# Altium schematic symbol library Antenna.SCHLIB: 130 symbols (part 3 of 4)
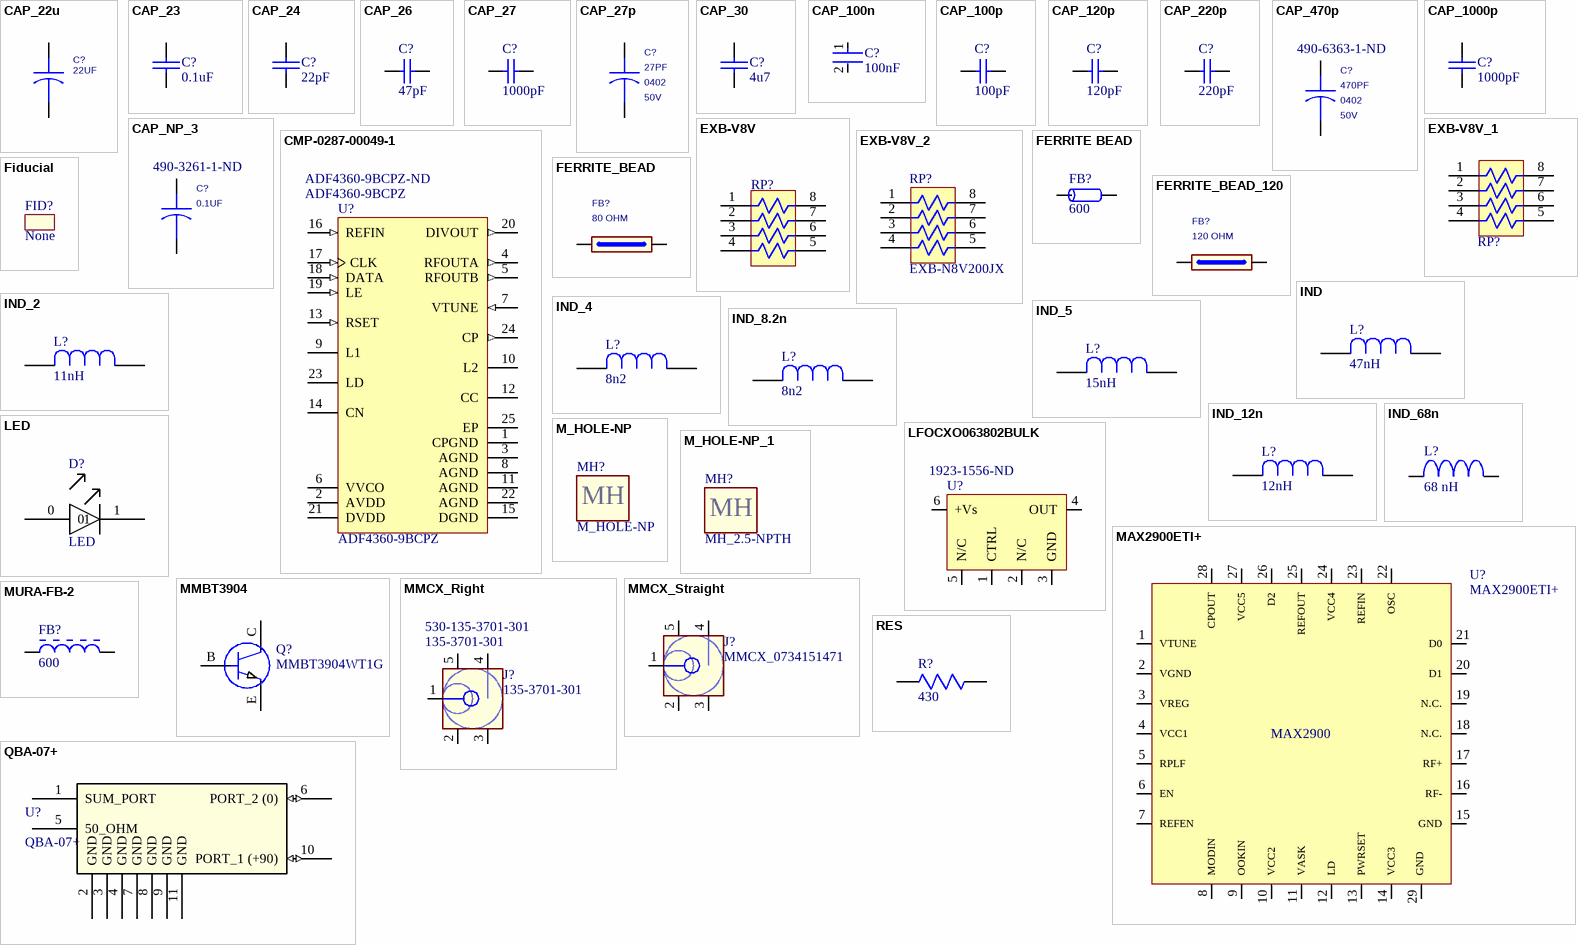
[diagram p5: symbols CAP_22u to RES]

## IND_8.2n
designator L?, comment 8n2
FIXED IND 8.2NH 380MA 280 MOHM; Manufacturer: Taiyo; Manufacturer Part Number: HK10058N2J-T; Current Rating: 300mA; Shielding: Unshielded; Self Resonant Frequency: 4.9GHz; Q Factor: 8; Resistance: 280mR; Supplier 1: Digi-Key; Supplier Part Number 1: 587-1517-1-ND; RoHS: No; Category: Fixed Inductors; Stock 1: 35680; Pricing 1: 1=0.10000, 10=0.02900, 100=0.01960, 500=0.01582, 1000=0.01351, 2500=0.01208 (USD); Case/Package: 0402; Number of Pins: 2; Packaging: Cut Tape; Inductance: 8.2nH; Length: 1mm; Height: 500um; Width: 500um; Halogen Free: Halogen Free; Lead Free: Exempt; ComponentLink1URL: http://ds.yuden.co.jp/TYCOMPAS/ut/detail.do?productNo=HK10058N2J-T&fileName=HK10058N2J-T_SS&mode=specSheetDownload&src-supplier=Digi-Key; ComponentLink1Description: http://ds.yuden.co.jp/TYCOMPAS/ut/detail.do?productNo=HK10058N2J-T&fileName=HK10058N2J-T_SS&mode=specSheetDownload&src-supplier=Digi-Key
footprint M9898-ND
footprint L0402
pins: 1, 2
2 alternate drawings of the same symbol

## IND_12n
designator L?, comment 12nH
FIXED IND 12NH 500MA 140 MOHM; Manufacturer Part Number: LQW15AN12NJ00D; ComponentLink1URL: http://search.murata.co.jp/Ceramy/image/img/P02/JELF243A-9138.pdf?src-supplier=Digi-Key; ComponentLink1Description: http://search.murata.co.jp/Ceramy/image/img/P02/JELF243A-9138.pdf?src-supplier=Digi-Key; ComponentLink2URL: https://datasheet.ciiva.com/11801/0900766b8090d800-11801400.pdf?src-supplier=RSComponents; ComponentLink2Description: https://datasheet.ciiva.com/11801/0900766b8090d800-11801400.pdf?src-supplier=RSComponents; ComponentLink3URL: https://datasheet.ciiva.com/1042/l0075s0080lqw15a-00-1042156.pdf?src-supplier=Digi-Key; ComponentLink3Description: https://datasheet.ciiva.com/1042/l0075s0080lqw15a-00-1042156.pdf?src-supplier=Digi-Key; ComponentLink4URL: https://datasheet.ciiva.com/1042/l0075s0080lqw15a-00-1042157.pdf?src-supplier=Digi-Key; ComponentLink4Description: https://datasheet.ciiva.com/1042/l0075s0080lqw15a-00-1042157.pdf?src-supplier=Digi-Key; ComponentLink5URL: https://datasheet.ciiva.com/1042/l0075s0080lqw15a-00-1042158.pdf?src-supplier=Digi-Key; ComponentLink5Description: https://datasheet.ciiva.com/1042/l0075s0080lqw15a-00-1042158.pdf?src-supplier=Digi-Key; Supplier 1: Digi-Key; Supplier Part Number 1: 490-1147-1-ND
footprint M9898-ND
footprint L0402
pins: 1, 2
2 alternate drawings of the same symbol

## IND_68n
designator L?, comment 68 nH
Fixed Inductors 0402AF Ferrite Chip 250 nH 5 % 0.52 A; Manufacturer Part Number: LQW15AN68NJ00D; Supplier 1: Digi-Key; Supplier Part Number 1: 490-1156-1-ND
footprint 0402AF-251XJLU
footprint 0402_RES
footprint 0402_cap
pins: 1 0, 2 1

## LED
designator D?
Manufacturer Part Number: SMLE13BC8TT86; Supplier 1: Digi-Key; Supplier Part Number 1: 846-1177-1-ND
footprint LED_0403
pins: 0, 1

## LFOCXO063802BULK
designator U?  Supplier Part Number 1: 1923-1556-ND  (hidden comment: LFOCXO063802BULK)
Supplier 1: Digi-Key; Manufacturer Part Number: LFOCXO063802BULK
footprint LFOCXO063802BULK
pins: 1 CTRL, 2 N/C, 3 GND, 4 OUT, 5 N/C, 6 +Vs

## M_HOLE-NP
designator MH?  (no BOM)
MH_2.5-NPTH; PCB DECAL: *
footprint MH_2.5-NPTH (Footprint not found)
footprint MH_2.5-NPTH
2 alternate drawings of the same symbol
text: MH

## M_HOLE-NP_1
designator MH?, comment MH_2.5-NPTH  (mechanical)
NPTH_#4_0.140A; PCB DECAL: *
footprint MH_2.5-NPTH (Footprint not found)
2 alternate drawings of the same symbol
text: MH

## MAX2900ETI+
designator U?
IC TX 915MHZ 200MW 28TQFN; Manufacturer: Maxim; Frequency: 928MHz; Current - Transmitting: 40mA; Max Supply Voltage: 4.5V; Min Supply Voltage: 2.7V; Operating Supply Current: 150mA; Supplier 1: Digi-Key; Supplier Part Number 1: MAX2900ETI+-ND; Manufacturer Part Number: MAX2900ETI+; RoHS: Yes; Category: RF Receivers, Transceivers; Stock 1: 173; Pricing 1: 1=7.63000, 10=6.99600, 25=6.36000, 100=5.72400, 250=5.24700, 500=4.77000, 1000=4.29300 (USD); Case/Package: QFN; Weight: 0.002497oz; Min Operating Temperature: -40°C; Max Operating Temperature: 85°C; Packaging: Rail/Tube; Package Quantity: 60; ComponentLink1URL: https://datasheet.ciiva.com/26927/max2900eti-26927063.pdf?src-supplier=IIIC; ComponentLink1Description: https://datasheet.ciiva.com/26927/max2900eti-26927063.pdf?src-supplier=IIIC; ComponentLink2URL: https://datasheet.ciiva.com/2802/max2900-max2904-2802478.pdf?src-supplier=Digi-Key; ComponentLink2Description: https://datasheet.ciiva.com/2802/max2900-max2904-2802478.pdf?src-supplier=Digi-Key
footprint MAX2900_ACTUAL
pins: 1, 2, 3, 4, 5, 6, 7, 8, 9, 10, 11, 12, 13, 14, 15, 16, 17, 18, 19, 20, 21, 22, 23, 24, 25, 26, 27, 28, 29 "Back side of chip connects to ground"
text: CPOUT; VCC5; D2; REFOUT; VCC4; REFIN; OSC; D0; VTUNE; D1; VGND; N.C.; VREG; MAX2900; VCC1; RF+; RPLF; RF-; EN; GND; REFEN; MODIN; OOKIN; VCC2; VASK; LD; PWRSET; VCC3

## MMBT3904
designator Q?, comment MMBT3904WT1G
Trans GP BJT NPN 40V 0.2A Automotive 3-Pin SC-70 T/R; Manufacturer: ON Semiconductor; Max Power Dissipation: 150mW; hFE Min: 40; Max Collector Current: 200mA; Transition Frequency: 300MHz; Collector Base Voltage (VCBO): 60V; Emitter Base Voltage (VEBO): 6V; Collector Emitter Saturation Voltage: 300mV; Element Configuration: Single; Current Rating: 8.6A; Type: General Purpose; Number of Elements: 1; Supplier 1: Digi-Key; Supplier Part Number 1: MMBT3904WT1GOSDKR-ND; Manufacturer Part Number: MMBT3904WT1G; RoHS: Yes; Category: Integrated Circuits (ICs); Stock 1: 197486; Pricing 1: 1=0.13000, 10=0.11800, 25=0.11240, 100=0.04950, 250=0.04752, 500=0.03888, 1000=0.02700 (USD); Case/Package: SC; Number of Pins: 3; Weight: 0.01lb; Contact Plating: Tin,Matte; Min Operating Temperature: -55°C; Max Operating Temperature: 150°C; Packaging: Tape and Reel; Package Quantity: 1; Collector Emitter Voltage (VCEO): 40V; Collector Emitter Breakdown Voltage: 40V; Polarity: NPN; Gain Bandwidth Product: 300MHz; Voltage Rating (DC): 40V; Frequency: 300MHz; Max Breakdown Voltage: 40V; Max Frequency: 300MHz; Power Dissipation: 150mW; Length: 0.086inch; Height: 0.035inch; Width: 0.053inch; Radiation Hardening: No; Lead Free: Lead Free; REACH SVHC: No SVHC; ComponentLink1URL: https://datasheet.ciiva.com/15139/getdatasheetpartid-127813-15139377.pdf?src-supplier=Verical; ComponentLink1Description: https://datasheet.ciiva.com/15139/getdatasheetpartid-127813-15139377.pdf?src-supplier=Verical; ComponentLink2URL: https://datasheet.ciiva.com/11199/mmbt3904wt1-d-11199015.pdf?src-supplier=Avnet; ComponentLink2Description: https://datasheet.ciiva.com/11199/mmbt3904wt1-d-11199015.pdf?src-supplier=Avnet; ComponentLink3URL: https://datasheet.ciiva.com/976/mmbt3904wt1-d-976457.pdf?src-supplier=Digi-Key; ComponentLink3Description: https://datasheet.ciiva.com/976/mmbt3904wt1-d-976457.pdf?src-supplier=Digi-Key; ComponentLink4URL: https://datasheet.ciiva.com/4721/mmbt3904wt1-d-110229-4721756.pdf?src-supplier=Mouser; ComponentLink4Description: https://datasheet.ciiva.com/4721/mmbt3904wt1-d-110229-4721756.pdf?src-supplier=Mouser; ComponentLink5URL: https://datasheet.ciiva.com/16478/mmbt3904wt1-d-16478540.pdf?src-supplier=Avnet+Asia; ComponentLink5Description: https://datasheet.ciiva.com/16478/mmbt3904wt1-d-16478540.pdf?src-supplier=Avnet+Asia; ComponentLink6URL: https://datasheet.ciiva.com/976/mmbt3904wt1-d-976455.pdf?src-supplier=Digi-Key; ComponentLink6Description: https://datasheet.ciiva.com/976/mmbt3904wt1-d-976455.pdf?src-supplier=Digi-Key; ComponentLink7URL: https://datasheet.ciiva.com/976/mmbt3904wt1-d-976456.pdf?src-supplier=Digi-Key; ComponentLink7Description: https://datasheet.ciiva.com/976/mmbt3904wt1-d-976456.pdf?src-supplier=Digi-Key; ComponentLink8URL: https://datasheet.ciiva.com/16202/mmbt3904wt1-d-16202393.pdf?src-supplier=Future+Electronics; ComponentLink8Description: https://datasheet.ciiva.com/16202/mmbt3904wt1-d-16202393.pdf?src-supplier=Future+Electronics; ComponentLink9URL: https://datasheet.ciiva.com/26115/mmbt3904wt1-d-26115129.pdf?src-supplier=Avnet+Europe; ComponentLink9Description: https://datasheet.ciiva.com/26115/mmbt3904wt1-d-26115129.pdf?src-supplier=Avnet+Europe
footprint SOT-323(BEC) (SC70)
footprint SOT-323(BEC) (Footprint not found)
pins: B, C, E
2 alternate drawings of the same symbol

## MMCX_Right
designator J?, comment 135-3701-301  Supplier Part Number 1: 530-135-3701-301  (mechanical)
Supplier 1: Mouser; Manufacturer Part Number: 135-3701-301
footprint CON_MOLEX_73415-2063
footprint MMCX_0734151471
pins: 1, 2, 3, 4, 5

## MMCX_Straight
designator J?, comment MMCX_0734151471
Conn MMCX RCP 50Ohm Solder ST Thru-Hole Gold Bulk; Manufacturer Part Number: 73415-1471; ComponentLink1URL: https://datasheet.ciiva.com/7002/734151471-sd-7002529.pdf?src-supplier=Digi-Key; ComponentLink1Description: https://datasheet.ciiva.com/7002/734151471-sd-7002529.pdf?src-supplier=Digi-Key; Supplier 1: Avnet; Supplier Part Number 1: 0734151471
footprint CON_MOLEX_73415-2063
footprint MMCX_0734151471
pins: 1, 2, 3, 4, 5

## MURA-FB-2
designator FB?, comment 600
Chip Ferrite Bead for General Use, 600 Ohm, 300 mA, -55 to 125 degC, 1 x 0.5 x 0.55 mm SMD, Tape and Reel; Manufacturer: Murata; Manufacturer Part Number: BLM15AG601SN1D; Impedance (at 100 MHz): 600 Ohm +/- 25%; DC Resistance: 0.52 Ohm Max.; Rated Current: 300 mA; PackageDescription: 2-Pin Chip, Body 1 x 0.5 mm; Mounting Technology: Surface Mount; ComponentLink1Description: Manufacturer URL; ComponentLink3Description: Package Specification; ComponentLink2Description: Datasheet; Operating Temperature Range: -55 to 125 degC; Packing: Tape and Reel; ComponentLink1URL: http://www.murata.com/; PackageReference: BLM15-2; DatasheetVersion: 08/2013; ComponentLink3URL: http://www.murata.com/products/catalog/pdf/c31e.pdf; ComponentLink2URL: http://www.murata.com/products/catalog/pdf/c31e.pdf; Supplier 1: Digi-Key; Supplier Part Number 1: 490-1006-1-ND
footprint MURA-BLM15-CHIP-2_V (Footprint not found)
footprint MURA-BLM15-CHIP-2_V
pins: 1, 2

## QBA-07+
designator U?
No Description Available; Mfr_Name: Mini Circuits; Copyright: Copyright (C) 2022 Ultra Librarian. All rights reserved.; Manufacturer Part Number: QBA-07+; RefDes: RefDes; Type: DEV
footprint SM1L_MNC
pins: 1 SUM_PORT, 2 GND, 3 GND, 4 GND, 5 50_OHM, 6 PORT_2 (0) (io), 7 GND, 8 GND, 9 GND, 10 PORT_1 (+90) (io), 11 GND

## RES
designator R?, comment 430
RES SMD 430 OHM 5% 1/16W 0402; Manufacturer Part Number: 311-430JRCT-ND; Manufacturer: Yageo; Manufacturer Part Number: RC0402JR-07430RL; Resistance: 430R; Temperature Coefficient: 100ppm/°C; Power Rating: 62.5mW; Voltage Rating: 50V; Max Power Dissipation: 63mW; Supplier 1: Digi-Key; RoHS: Yes; Category: Chip SMD Resistors; Stock 1: 521; Pricing 1: 1=0.10000, 10=0.01300, 100=0.00530, 1000=0.00236, 2500=0.00205, 5000=0.00169 (USD); Case/Package: 0402; Contact Plating: Tin,Matte; Case Code (Imperial): 0402; Case Code (Metric): 1005; Min Operating Temperature: -55°C; Max Operating Temperature: 155°C; Tolerance: 5%; Composition: Thick Film; Voltage Rating (DC): 50V; Packaging: Tape and Reel; Package Quantity: 1; Working Voltage: 50V; Termination: SMD/SMT; Number of Terminations: 2; Military Standard: Not; Features: Moisture Resistant; Length: 0.039inch; Height: 0.016inch; Width: 0.02inch; Depth: 0.5mm; Lead Free: Lead Free; ComponentLink1URL: https://datasheet.ciiva.com/2452/pyu-r-int-thick-7-2452725.pdf?src-supplier=Digi-Key; ComponentLink1Description: https://datasheet.ciiva.com/2452/pyu-r-int-thick-7-2452725.pdf?src-supplier=Digi-Key; ComponentLink2URL: https://datasheet.ciiva.com/16743/pyu-rc0402-51-rohs-l-6-r-16743893.pdf?src-supplier=Future+Electronics; ComponentLink2Description: https://datasheet.ciiva.com/16743/pyu-rc0402-51-rohs-l-6-r-16743893.pdf?src-supplier=Future+Electronics; ComponentLink3URL: https://datasheet.ciiva.com/16863/pyu-rc0402-51-rohs-l-6-16863285.pdf?src-supplier=Avnet+Europe; ComponentLink3Description: https://datasheet.ciiva.com/16863/pyu-rc0402-51-rohs-l-6-16863285.pdf?src-supplier=Avnet+Europe; ComponentLink4URL: https://datasheet.ciiva.com/2452/pyu-r-int-thick-7-2452726.pdf?src-supplier=Digi-Key; ComponentLink4Description: https://datasheet.ciiva.com/2452/pyu-r-int-thick-7-2452726.pdf?src-supplier=Digi-Key; ComponentLink5URL: https://datasheet.ciiva.com/2452/pyu-r-int-thick-7-2452727.pdf?src-supplier=Digi-Key; ComponentLink5Description: https://datasheet.ciiva.com/2452/pyu-r-int-thick-7-2452727.pdf?src-supplier=Digi-Key; ComponentLink6URL: https://datasheet.ciiva.com/28390/pyu-rc0402-51-rohs-l-6-28390744.pdf?src-supplier=Avnet+Europe; ComponentLink6Description: https://datasheet.ciiva.com/28390/pyu-rc0402-51-rohs-l-6-28390744.pdf?src-supplier=Avnet+Europe
footprint RES400
footprint 0805
footprint 1206
footprint 0603
footprint R0402
pins: 1, 2
2 alternate drawings of the same symbol

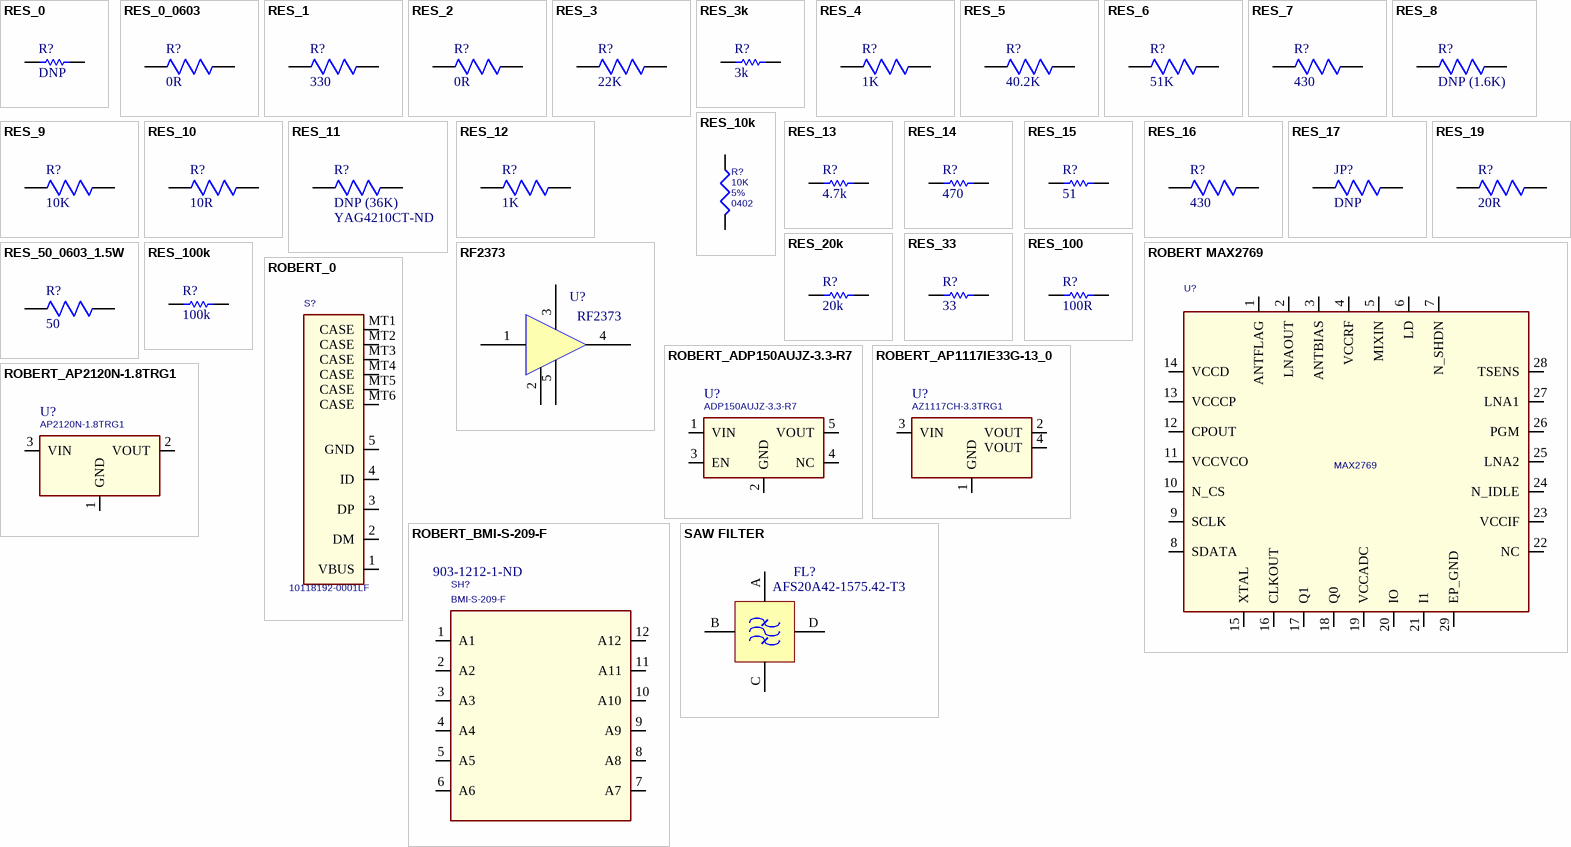
[diagram p2: symbols RES_0 to SAW FILTER]

## RES_0
designator R?, comment DNP
Chip Resistor, 0 Ohm, +/- 5%, -55 to 125 degC, 0402 (1005 Metric), RoHS, Tape and Reel; Manufacturer Part Number: RC0402JR-070RL; Supplier 1: Digi-Key; Supplier Part Number 1: 311-0.0JRCT-ND
footprint RESC1005X40X25LL05T10 (Chip Resistor, 2-Leads, Body 1.05x0.55mm, IPC High Density)
footprint RESC1005X40X25ML05T10 (Chip Resistor, 2-Leads, Body 1.05x0.55mm, IPC Low Density)
footprint RESC1005X40X25NL05T10 (Chip Resistor, 2-Leads, Body 1.05x0.55mm, IPC Medium Density)
footprint 0402_RES
pins: 1, 2

## RES_0_0603
designator R?, comment 0R
RES SMD 0 OHM JUMPER 1/10W 0603; Manufacturer: Yageo; Manufacturer Part Number: RC0603JR-070RL; Resistance: 0mR; Tolerance: 1%; Power Rating: 100mW; Voltage Rating (DC): 50V; Temperature Coefficient: 200ppm/°C; Supplier 1: Digi-Key; Supplier Part Number 1: 311-0.0GRDKR-ND; RoHS: Yes; Category: Chip SMD Resistors; Stock 1: 31842356; Pricing 1: 1=0.10000, 10=0.01900, 25=0.01360, 50=0.01040, 100=0.00770, 250=0.00588, 500=0.00472, 1000=0.00347 (USD); Case/Package: 0603; Number of Pins: 2; Contact Plating: Tin,Matte; Case Code (Imperial): 0603; Case Code (Metric): 1608; Min Operating Temperature: -55°C; Max Operating Temperature: 155°C; Composition: Thick Film; Packaging: Tape and Reel; Termination: SMD/SMT; Package Quantity: 5000; Voltage Rating: 50V; Military Standard: Not; Length: 1.6mm; Height: 0.45mm; Width: 0.8mm; Depth: 0.8mm; Radiation Hardening: No; REACH SVHC: No SVHC; Lead Free: Lead Free; ComponentLink1URL: https://datasheet.ciiva.com/11808/pyu-r-int-6-11808700.pdf?src-supplier=RSComponents; ComponentLink1Description: https://datasheet.ciiva.com/11808/pyu-r-int-6-11808700.pdf?src-supplier=RSComponents; ComponentLink2URL: https://datasheet.ciiva.com/7746/1738695-7746421.pdf?src-supplier=Element14; ComponentLink2Description: https://datasheet.ciiva.com/7746/1738695-7746421.pdf?src-supplier=Element14; ComponentLink3URL: https://datasheet.ciiva.com/8883/pyu-rc0603-51-rohs-l-4-8883045.pdf?src-supplier=Avnet; ComponentLink3Description: https://datasheet.ciiva.com/8883/pyu-rc0603-51-rohs-l-4-8883045.pdf?src-supplier=Avnet; ComponentLink4URL: https://datasheet.ciiva.com/15189/getdatasheetpartid-329462-15189845.pdf?src-supplier=Verical; ComponentLink4Description: https://datasheet.ciiva.com/15189/getdatasheetpartid-329462-15189845.pdf?src-supplier=Verical; ComponentLink5URL: https://datasheet.ciiva.com/7746/1738695-7746422.pdf?src-supplier=Element14; ComponentLink5Description: https://datasheet.ciiva.com/7746/1738695-7746422.pdf?src-supplier=Element14; ComponentLink6URL: https://datasheet.ciiva.com/12555/rc0603-272842-12555254.pdf?src-supplier=Mouser; ComponentLink6Description: https://datasheet.ciiva.com/12555/rc0603-272842-12555254.pdf?src-supplier=Mouser; ComponentLink7URL: https://datasheet.ciiva.com/22747/443971-22747530.pdf?src-supplier=Element14; ComponentLink7Description: https://datasheet.ciiva.com/22747/443971-22747530.pdf?src-supplier=Element14
footprint RES400
footprint 0805
footprint 1206
footprint 0603
footprint R0402
footprint 0603_RES
pins: 1, 2
2 alternate drawings of the same symbol

## RES_1
designator R?, comment 330
Res Thick Film 0402 330 Ohm 5% 0.063W(1/16W) ±100ppm/C Epoxy Pad SMD T/R; Manufacturer: Yageo; Manufacturer Part Number: RC0402JR-07330RL; Temperature Coefficient: 100ppm/°C; Max Power Dissipation: 63mW; Power Rating: 62.5mW; Resistance: 330R; Voltage Rating: 50V; Supplier 1: Digi-Key; Supplier Part Number 1: 311-330JRCT-ND; RoHS: Yes; Category: Chip SMD Resistors; Stock 1: 4398999; Pricing 1: 1=0.10000, 10=0.01300, 100=0.00530, 1000=0.00236, 2500=0.00205, 5000=0.00169 (USD); Case/Package: 0402; Case Code (Imperial): 0402; Case Code (Metric): 1005; Min Operating Temperature: -55°C; Max Operating Temperature: 155°C; Features: Moisture Resistant; Termination: SMD/SMT; Composition: Thick Film; Number of Terminations: 2; Military Standard: Not; Packaging: Tape and Reel; Package Quantity: 1; Tolerance: 5%; Length: 1mm; Height: 0.016inch; Depth: 0.5mm; Width: 0.5mm; REACH SVHC: No SVHC; Lead Free: Lead Free; ComponentLink1URL: https://datasheet.ciiva.com/7850/1018594-7850197.pdf?src-supplier=Element14; ComponentLink1Description: https://datasheet.ciiva.com/7850/1018594-7850197.pdf?src-supplier=Element14; ComponentLink2URL: https://datasheet.ciiva.com/2452/pyu-r-int-thick-7-2452806.pdf?src-supplier=Digi-Key; ComponentLink2Description: https://datasheet.ciiva.com/2452/pyu-r-int-thick-7-2452806.pdf?src-supplier=Digi-Key; ComponentLink3URL: https://datasheet.ciiva.com/2452/pyu-r-int-thick-7-2452807.pdf?src-supplier=Digi-Key; ComponentLink3Description: https://datasheet.ciiva.com/2452/pyu-r-int-thick-7-2452807.pdf?src-supplier=Digi-Key; ComponentLink4URL: https://datasheet.ciiva.com/46394/1018594-46394967.pdf?src-supplier=Element14; ComponentLink4Description: https://datasheet.ciiva.com/46394/1018594-46394967.pdf?src-supplier=Element14; ComponentLink5URL: https://datasheet.ciiva.com/2452/pyu-r-int-thick-7-2452808.pdf?src-supplier=Digi-Key; ComponentLink5Description: https://datasheet.ciiva.com/2452/pyu-r-int-thick-7-2452808.pdf?src-supplier=Digi-Key; ComponentLink6URL: https://datasheet.ciiva.com/16992/pyu-rc0402-51-rohs-l-6-r-16992152.pdf?src-supplier=Future+Electronics; ComponentLink6Description: https://datasheet.ciiva.com/16992/pyu-rc0402-51-rohs-l-6-r-16992152.pdf?src-supplier=Future+Electronics; ComponentLink7URL: https://datasheet.ciiva.com/7983/1018594-7983577.pdf?src-supplier=Element14; ComponentLink7Description: https://datasheet.ciiva.com/7983/1018594-7983577.pdf?src-supplier=Element14; ComponentLink8URL: https://datasheet.ciiva.com/15189/getdatasheetpartid-327801-15189565.pdf?src-supplier=Verical; ComponentLink8Description: https://datasheet.ciiva.com/15189/getdatasheetpartid-327801-15189565.pdf?src-supplier=Verical
footprint RES400
footprint 0805
footprint 1206
footprint 0603
footprint R0402
pins: 1, 2
2 alternate drawings of the same symbol

## RES_2
designator R?, comment 0R
YAGEO - RC0402JR-070RL. - RES, THICK FILM, 0R, 0.0625W, 0402; Resistance: 0mR; Power Rating: 62.5mW; Tolerance: 5%; Temperature Coefficient: 200ppm/°C; Voltage Rating: 50V; Max Power Dissipation: 63mW; Supplier 1: Digi-Key; Supplier Part Number 1: 311-0.0JRDKR-ND; Manufacturer: Yageo; Manufacturer Part Number: RC0402JR-070RL; RoHS: Yes; Category: Chip SMD Resistors; Stock 1: 20319578; Pricing 1: 1=0.10000, 10=0.01300, 25=0.00920, 50=0.00720, 100=0.00530, 250=0.00400, 500=0.00320, 1000=0.00236, 5000=0.00169 (USD); Case/Package: 0402; Contact Plating: Tin,Matte; Case Code (Metric): 1005; Case Code (Imperial): 0402; Min Operating Temperature: -55°C; Max Operating Temperature: 155°C; Composition: Thick Film; Packaging: Tape and Reel; Termination: SMD/SMT; Package Quantity: 1; Number of Terminations: 2; Military Standard: Not; Features: Moisture Resistant; Length: 1mm; Height: 0.016inch; Width: 0.02inch; Depth: 0.5mm; Radiation Hardening: No; Lead Free: Lead Free; REACH SVHC: Unknown; ComponentLink1URL: https://datasheet.ciiva.com/2452/pyu-rc0402-51-rohs-l-6-2452608.pdf?src-supplier=Digi-Key; ComponentLink1Description: https://datasheet.ciiva.com/2452/pyu-rc0402-51-rohs-l-6-2452608.pdf?src-supplier=Digi-Key; ComponentLink2URL: https://datasheet.ciiva.com/11808/0900766b80c66297-11808195.pdf?src-supplier=RSComponents; ComponentLink2Description: https://datasheet.ciiva.com/11808/0900766b80c66297-11808195.pdf?src-supplier=RSComponents; ComponentLink3URL: https://datasheet.ciiva.com/2452/pyu-r-int-thick-7-2452609.pdf?src-supplier=Digi-Key; ComponentLink3Description: https://datasheet.ciiva.com/2452/pyu-r-int-thick-7-2452609.pdf?src-supplier=Digi-Key; ComponentLink4URL: https://datasheet.ciiva.com/2452/pyu-r-int-thick-7-2452610.pdf?src-supplier=Digi-Key; ComponentLink4Description: https://datasheet.ciiva.com/2452/pyu-r-int-thick-7-2452610.pdf?src-supplier=Digi-Key; ComponentLink5URL: https://datasheet.ciiva.com/8896/pyu-rc0402-51-rohs-l-6-8896201.pdf?src-supplier=Avnet; ComponentLink5Description: https://datasheet.ciiva.com/8896/pyu-rc0402-51-rohs-l-6-8896201.pdf?src-supplier=Avnet; ComponentLink6URL: https://datasheet.ciiva.com/28386/pyu-rc0402-51-rohs-l-6-28386633.pdf?src-supplier=Avnet+Europe; ComponentLink6Description: https://datasheet.ciiva.com/28386/pyu-rc0402-51-rohs-l-6-28386633.pdf?src-supplier=Avnet+Europe; ComponentLink7URL: https://datasheet.ciiva.com/22747/1018594-22747515.pdf?src-supplier=Element14; ComponentLink7Description: https://datasheet.ciiva.com/22747/1018594-22747515.pdf?src-supplier=Element14; ComponentLink8URL: https://datasheet.ciiva.com/15189/getdatasheetpartid-326379-15189533.pdf?src-supplier=Verical; ComponentLink8Description: https://datasheet.ciiva.com/15189/getdatasheetpartid-326379-15189533.pdf?src-supplier=Verical; ComponentLink9URL: https://datasheet.ciiva.com/7983/1018594-7983535.pdf?src-supplier=Element14; ComponentLink9Description: https://datasheet.ciiva.com/7983/1018594-7983535.pdf?src-supplier=Element14
footprint RES400
footprint 0805
footprint 1206
footprint 0603
footprint R0402
pins: 1, 2
2 alternate drawings of the same symbol

## RES_3
designator R?, comment 22K
RESISTOR, THICK FILM, 22KOHM, 62.5mW, 5%; Manufacturer: Yageo; Manufacturer Part Number: RC0402JR-0722KL; Power Rating: 63mW; Voltage Rating: 50V; Resistance: 22kR; Temperature Coefficient: 100ppm/°C; Supplier 1: Digi-Key; Supplier Part Number 1: 311-22KJRCT-ND; RoHS: Yes; Category: Chip SMD Resistors; Stock 1: 585455; Pricing 1: 1=0.10000, 10=0.01300, 100=0.00530, 1000=0.00236, 2500=0.00205, 5000=0.00169 (USD); Case/Package: 0402; Case Code (Imperial): 0402; Case Code (Metric): 1005; Min Operating Temperature: -55°C; Max Operating Temperature: 155°C; Tolerance: 5%; Packaging: Tape and Reel; Termination: SMD/SMT; Composition: Thick Film; Military Standard: Not; Length: 1mm; Depth: 0.5mm; Lead Free: Lead Free; REACH SVHC: Unknown; ComponentLink1URL: https://datasheet.ciiva.com/17071/pyu-rc0402-51-rohs-l-6-r-17071276.pdf?src-supplier=Future+Electronics; ComponentLink1Description: https://datasheet.ciiva.com/17071/pyu-rc0402-51-rohs-l-6-r-17071276.pdf?src-supplier=Future+Electronics; ComponentLink2URL: https://datasheet.ciiva.com/5684/1018594-5684655.pdf?src-supplier=Farnell; ComponentLink2Description: https://datasheet.ciiva.com/5684/1018594-5684655.pdf?src-supplier=Farnell; ComponentLink3URL: https://datasheet.ciiva.com/12668/pyu-rc0402-51-rohs-l-6-r-12668217.pdf?src-supplier=Mouser; ComponentLink3Description: https://datasheet.ciiva.com/12668/pyu-rc0402-51-rohs-l-6-r-12668217.pdf?src-supplier=Mouser; ComponentLink4URL: https://datasheet.ciiva.com/7983/1018594-7983567.pdf?src-supplier=Element14; ComponentLink4Description: https://datasheet.ciiva.com/7983/1018594-7983567.pdf?src-supplier=Element14
footprint RES400
footprint 0805
footprint 1206
footprint 0603
footprint R0402
pins: 1, 2
2 alternate drawings of the same symbol

## RES_3k
designator R?, comment 3k
Manufacturer Part Number: RC0402FR-073KL; Supplier 1: Digi-Key; Supplier Part Number 1: 311-3KLRCT-ND
footprint RESC1005X40X25ML05T05 (Chip Resistor, 2-Leads, Body 1.05x0.55mm, IPC Low Density)
footprint RESC1005X40X25NL05T05 (Chip Resistor, 2-Leads, Body 1.05x0.55mm, IPC Medium Density)
footprint 0402_RES
pins: 1, 2

## RES_4
designator R?, comment 1K
RES SMD 1K OHM 5% 1/16W 0402; Manufacturer: Yageo; Manufacturer Part Number: RC0402JR-071KP; Max Power Dissipation: 63mW; Temperature Coefficient: 150ppm/°C; Resistance: 1kR; Supplier 1: Digi-Key; Supplier Part Number 1: YAG1284CT-ND; RoHS: Yes; Category: Chip SMD Resistors; Stock 1: 58735; Pricing 1: 1=0.10000, 10=0.02500, 100=0.01010, 1000=0.00453, 2500=0.00393, 5000=0.00325 (USD); Case/Package: 0402; Case Code (Imperial): 0402; Case Code (Metric): 1005; Min Operating Temperature: -55°C; Max Operating Temperature: 155°C; Features: Moisture Resistant; Tolerance: 5%; Packaging: Tape and Reel; Composition: Thick Film; Number of Terminations: 2; Length: 0.039inch; Height: 0.016inch; Width: 0.02inch; ComponentLink1URL: http://www.yageo.com/NewPortal/yageodocoutput?fileName=/pdf/R-Chip/PYu-RC_51_RoHS_P_0.pdf&src-supplier=Digi-Key; ComponentLink1Description: http://www.yageo.com/NewPortal/yageodocoutput?fileName=/pdf/R-Chip/PYu-RC_51_RoHS_P_0.pdf&src-supplier=Digi-Key
footprint RES400
footprint 0805
footprint 1206
footprint 0603
footprint R0402
pins: 1, 2
2 alternate drawings of the same symbol

## RES_5
designator R?, comment 40.2K
RES SMD 40.2K OHM 1% 1/16W 0402; Manufacturer: Yageo; Manufacturer Part Number: RC0402FR-0740K2L; Resistance: 40.2kR; Temperature Coefficient: 100ppm/°C; Power Rating: 62.5mW; Voltage Rating: 50V; Max Power Dissipation: 63mW; Supplier 1: Digi-Key; Supplier Part Number 1: 311-40.2KLRDKR-ND; RoHS: Yes; Category: Chip SMD Resistors; Stock 1: 1118380; Pricing 1: 1=0.10000, 10=0.01600, 100=0.00640, 1000=0.00289, 2500=0.00251, 5000=0.00207 (USD); Case/Package: 0402; Contact Plating: Tin,Matte; Case Code (Metric): 1005; Case Code (Imperial): 0402; Min Operating Temperature: -55°C; Max Operating Temperature: 155°C; Tolerance: 1%; Composition: Thick Film; Package Quantity: 1; Packaging: Tape and Reel; Number of Terminations: 2; Termination: SMD/SMT; Military Standard: Not; Voltage Rating (DC): 50V; Features: Moisture Resistant; Length: 0.039inch; Height: 0.016inch; Width: 0.02inch; Depth: 0.5mm; Lead Free: Lead Free; ComponentLink1URL: https://datasheet.ciiva.com/2453/pyu-r-int-thick-7-2453436.pdf?src-supplier=Digi-Key; ComponentLink1Description: https://datasheet.ciiva.com/2453/pyu-r-int-thick-7-2453436.pdf?src-supplier=Digi-Key; ComponentLink2URL: https://datasheet.ciiva.com/2453/pyu-r-int-thick-7-2453437.pdf?src-supplier=Digi-Key; ComponentLink2Description: https://datasheet.ciiva.com/2453/pyu-r-int-thick-7-2453437.pdf?src-supplier=Digi-Key; ComponentLink3URL: https://datasheet.ciiva.com/2453/pyu-r-int-thick-7-2453438.pdf?src-supplier=Digi-Key; ComponentLink3Description: https://datasheet.ciiva.com/2453/pyu-r-int-thick-7-2453438.pdf?src-supplier=Digi-Key; ComponentLink4URL: https://datasheet.ciiva.com/16744/pyu-rc0402-51-rohs-l-6-r-16744286.pdf?src-supplier=Future+Electronics; ComponentLink4Description: https://datasheet.ciiva.com/16744/pyu-rc0402-51-rohs-l-6-r-16744286.pdf?src-supplier=Future+Electronics; ComponentLink5URL: https://datasheet.ciiva.com/8889/pyu-rc0402-51-rohs-l-6-8889263.pdf?src-supplier=Avnet; ComponentLink5Description: https://datasheet.ciiva.com/8889/pyu-rc0402-51-rohs-l-6-8889263.pdf?src-supplier=Avnet; ComponentLink6URL: https://datasheet.ciiva.com/16857/pyu-rc0402-51-rohs-l-6-16857071.pdf?src-supplier=Avnet+Europe; ComponentLink6Description: https://datasheet.ciiva.com/16857/pyu-rc0402-51-rohs-l-6-16857071.pdf?src-supplier=Avnet+Europe; ComponentLink7URL: https://datasheet.ciiva.com/28400/pyu-rc0402-51-rohs-l-6-28400199.pdf?src-supplier=Avnet+Europe; ComponentLink7Description: https://datasheet.ciiva.com/28400/pyu-rc0402-51-rohs-l-6-28400199.pdf?src-supplier=Avnet+Europe; ComponentLink8URL: https://datasheet.ciiva.com/5557/pyu-rc0402-51-rohs-l-6-r-5557981.pdf?src-supplier=Mouser; ComponentLink8Description: https://datasheet.ciiva.com/5557/pyu-rc0402-51-rohs-l-6-r-5557981.pdf?src-supplier=Mouser
footprint RES400
footprint 0805
footprint 1206
footprint 0603
footprint R0402
pins: 1, 2
2 alternate drawings of the same symbol

## RES_6
designator R?, comment 51K
RES SMD 51K OHM 1% 1/10W 0603; Manufacturer: Yageo; Manufacturer Part Number: RC0603FR-0751KL; Resistance: 51kR; Power Rating: 100mW; Voltage Rating: 50V; Temperature Coefficient: 100ppm/°C; Supplier 1: Digi-Key; Supplier Part Number 1: 311-51.0KHRCT-ND; RoHS: Yes; Category: Chip SMD Resistors; Stock 1: 4183124; Pricing 1: 1=0.10000, 10=0.02300, 100=0.00940, 1000=0.00421, 2500=0.00366 (USD); Case/Package: 0603; Number of Pins: 2; Case Code (Imperial): 0603; Case Code (Metric): 1608; Min Operating Temperature: -55°C; Max Operating Temperature: 155°C; Tolerance: 1%; Packaging: Tape and Reel; Package Quantity: 1; Termination: SMD/SMT; Composition: Thick Film; Number of Terminations: 2; Max Power Dissipation: 100mW; Voltage Rating (DC): 50V; Features: Moisture Resistant; Length: 1.6mm; Height: 0.45mm; Width: 0.8mm; Depth: 0.8mm; REACH SVHC: No SVHC; Lead Free: Lead Free; ComponentLink1URL: https://datasheet.ciiva.com/11819/0900766b80f96399-11819378.pdf?src-supplier=RSComponents; ComponentLink1Description: https://datasheet.ciiva.com/11819/0900766b80f96399-11819378.pdf?src-supplier=RSComponents; ComponentLink2URL: https://datasheet.ciiva.com/46395/443971-46395014.pdf?src-supplier=Element14; ComponentLink2Description: https://datasheet.ciiva.com/46395/443971-46395014.pdf?src-supplier=Element14; ComponentLink3URL: https://datasheet.ciiva.com/12558/rc0603-272842-12558554.pdf?src-supplier=Mouser; ComponentLink3Description: https://datasheet.ciiva.com/12558/rc0603-272842-12558554.pdf?src-supplier=Mouser; ComponentLink4URL: https://datasheet.ciiva.com/2454/pyu-r-int-thick-7-2454123.pdf?src-supplier=Digi-Key; ComponentLink4Description: https://datasheet.ciiva.com/2454/pyu-r-int-thick-7-2454123.pdf?src-supplier=Digi-Key; ComponentLink5URL: https://datasheet.ciiva.com/2454/pyu-r-int-thick-7-2454124.pdf?src-supplier=Digi-Key; ComponentLink5Description: https://datasheet.ciiva.com/2454/pyu-r-int-thick-7-2454124.pdf?src-supplier=Digi-Key; ComponentLink6URL: https://datasheet.ciiva.com/2454/pyu-r-int-thick-7-2454125.pdf?src-supplier=Digi-Key; ComponentLink6Description: https://datasheet.ciiva.com/2454/pyu-r-int-thick-7-2454125.pdf?src-supplier=Digi-Key
footprint RES400
footprint 0805
footprint 1206
footprint 0603
footprint R0402
footprint 0603_RES
pins: 1, 2
2 alternate drawings of the same symbol

## RES_7
designator R?, comment 430
RES SMD 430 OHM 5% 1/16W 0402; Manufacturer Part Number: 311-430JRCT-ND; Manufacturer: Yageo; Manufacturer Part Number: RC0402JR-07430RL; Resistance: 430R; Temperature Coefficient: 100ppm/°C; Power Rating: 62.5mW; Voltage Rating: 50V; Max Power Dissipation: 63mW; Supplier 1: Digi-Key; RoHS: Yes; Category: Chip SMD Resistors; Stock 1: 521; Pricing 1: 1=0.10000, 10=0.01300, 100=0.00530, 1000=0.00236, 2500=0.00205, 5000=0.00169 (USD); Case/Package: 0402; Contact Plating: Tin,Matte; Case Code (Imperial): 0402; Case Code (Metric): 1005; Min Operating Temperature: -55°C; Max Operating Temperature: 155°C; Tolerance: 5%; Composition: Thick Film; Voltage Rating (DC): 50V; Packaging: Tape and Reel; Package Quantity: 1; Working Voltage: 50V; Termination: SMD/SMT; Number of Terminations: 2; Military Standard: Not; Features: Moisture Resistant; Length: 0.039inch; Height: 0.016inch; Width: 0.02inch; Depth: 0.5mm; Lead Free: Lead Free; ComponentLink1URL: https://datasheet.ciiva.com/2452/pyu-r-int-thick-7-2452725.pdf?src-supplier=Digi-Key; ComponentLink1Description: https://datasheet.ciiva.com/2452/pyu-r-int-thick-7-2452725.pdf?src-supplier=Digi-Key; ComponentLink2URL: https://datasheet.ciiva.com/16743/pyu-rc0402-51-rohs-l-6-r-16743893.pdf?src-supplier=Future+Electronics; ComponentLink2Description: https://datasheet.ciiva.com/16743/pyu-rc0402-51-rohs-l-6-r-16743893.pdf?src-supplier=Future+Electronics; ComponentLink3URL: https://datasheet.ciiva.com/16863/pyu-rc0402-51-rohs-l-6-16863285.pdf?src-supplier=Avnet+Europe; ComponentLink3Description: https://datasheet.ciiva.com/16863/pyu-rc0402-51-rohs-l-6-16863285.pdf?src-supplier=Avnet+Europe; ComponentLink4URL: https://datasheet.ciiva.com/2452/pyu-r-int-thick-7-2452726.pdf?src-supplier=Digi-Key; ComponentLink4Description: https://datasheet.ciiva.com/2452/pyu-r-int-thick-7-2452726.pdf?src-supplier=Digi-Key; ComponentLink5URL: https://datasheet.ciiva.com/2452/pyu-r-int-thick-7-2452727.pdf?src-supplier=Digi-Key; ComponentLink5Description: https://datasheet.ciiva.com/2452/pyu-r-int-thick-7-2452727.pdf?src-supplier=Digi-Key; ComponentLink6URL: https://datasheet.ciiva.com/28390/pyu-rc0402-51-rohs-l-6-28390744.pdf?src-supplier=Avnet+Europe; ComponentLink6Description: https://datasheet.ciiva.com/28390/pyu-rc0402-51-rohs-l-6-28390744.pdf?src-supplier=Avnet+Europe
footprint RES400
footprint 0805
footprint 1206
footprint 0603
footprint R0402
pins: 1, 2
2 alternate drawings of the same symbol

## RES_8
designator R?, comment DNP (1.6K)
1.6k Ohm 5% 0402 Resistor; Supplier 1: Digi-Key; Supplier Part Number 1: 541-1.60KLCT-ND
footprint RES400
footprint 0805
footprint 1206
footprint 0603
footprint R0402
footprint 0402_RES
pins: 1, 2
2 alternate drawings of the same symbol

## RES_9
designator R?, comment 10K
YAGEO - RC0805JR-1310KL - RES, THICK FILM, 10K, 5%, 0.125W, 0805, REEL; Manufacturer Part Number: RC0805JR-13100KL; Resistance: 100kR; Temperature Coefficient: 100ppm/°C; Power Rating: 125mW; Voltage Rating: 150V; Manufacturer: Yageo; RoHS: Yes; Category: Chip SMD Resistors; Stock 1: 20000; Pricing 1: 20000=0.00300, 60000=0.00300, 100000=0.00290, 200000=0.00290, 400000=0.00290 (USD); Case/Package: 0805; Contact Plating: Tin,Matte,Lead; Case Code (Imperial): 0805; Case Code (Metric): 2012; Min Operating Temperature: -55°C; Max Operating Temperature: 155°C; Tolerance: 5%; Composition: Thick Film; Packaging: Tape and Reel; Termination: SMD/SMT; Military Standard: Not; Length: 2mm; Height: 0.5mm; Width: 1.25mm; Depth: 1.25mm; Radiation Hardening: No; Lead Free: Lead Free; ComponentLink1URL: http://components.arrow.com/part/dataview/0323_00047882?src-supplier=Arrow+Europe; ComponentLink1Description: http://components.arrow.com/part/dataview/0323_00047882?src-supplier=Arrow+Europe; ComponentLink2URL: http://www.mouser.com/ds/2/447/Yageo_08112016_RC0805-968729.pdf?src-supplier=Mouser; ComponentLink2Description: http://www.mouser.com/ds/2/447/Yageo_08112016_RC0805-968729.pdf?src-supplier=Mouser; ComponentLink3URL: http://www.yageo.com/documents/recent/PYu-RC0805_51_RoHS_L_5.pdf?src-supplier=Avnet+Europe; ComponentLink3Description: http://www.yageo.com/documents/recent/PYu-RC0805_51_RoHS_L_5.pdf?src-supplier=Avnet+Europe; ComponentLink4URL: http://www.yageo.com/pdf/PYu-RC0805_51_RoHS_L_4.pdf?src-supplier=Avnet; ComponentLink4Description: http://www.yageo.com/pdf/PYu-RC0805_51_RoHS_L_4.pdf?src-supplier=Avnet; Stock 2: 20000; Pricing 2: 1=0.00400, 20000=0.00400, 40000=0.00300 (USD); Number of Pins: 2; Voltage Rating (DC): 150V; REACH SVHC: No SVHC; ComponentLink5URL: https://datasheet.ciiva.com/16850/rc0805-16850429.pdf?src-supplier=Future+Electronics; ComponentLink5Description: https://datasheet.ciiva.com/16850/rc0805-16850429.pdf?src-supplier=Future+Electronics; Supplier 1: Newark; Supplier Part Number 1: 28X3150
footprint RES400
footprint 0805
footprint 1206
footprint 0603
footprint R0402
footprint 0805_RES
pins: 1, 2
2 alternate drawings of the same symbol

## RES_10
designator R?, comment 10R
RES SMD 0402 1% 1/5W 10 OHM; Manufacturer: Yageo; Manufacturer Part Number: SR0402FR-7T10RL; Supplier 1: Digi-Key; Supplier Part Number 1: YAG5816CT-ND; RoHS: No; Stock 1: 9990; Pricing 1: 1=0.56000, 10=0.40200, 100=0.20910, 1000=0.11257, 2500=0.10855, 5000=0.10695 (USD); ComponentLink1URL: http://www.yageo.com/documents/recent/PYu-SR_D_F%20tol_RoHS_L_3.pdf?src-supplier=Digi-Key; ComponentLink1Description: http://www.yageo.com/documents/recent/PYu-SR_D_F%20tol_RoHS_L_3.pdf?src-supplier=Digi-Key
footprint RES400
footprint 0805
footprint 1206
footprint 0603
footprint R0402
footprint 0402_RES
pins: 1, 2
2 alternate drawings of the same symbol

## RES_10k
designator R?, comment 10K  Attr: 5%  Package: 0402
Surface Mount Thick Film Resistor, Rc Series, 10 Kohm, 62.5 Mw, - 1%, 50 V, 0402 [1005 Metric]; Manufacturer: Yageo; Manufacturer Part Number: RC0402FR-0710KL; Mfg: ANY; MfgPN: TKF-1/32-10K 5% ROHS; Temperature Coefficient: 100ppm/°C; Resistance: 10kR; Voltage Rating (DC): 50V; Power Rating: 62.5mW; Part Number: 710-10-302; Supplier 1: Digi-Key; Supplier Part Number 1: YAG3436CT-ND; RoHS: Yes; Category: Chip SMD Resistors; Stock 1: 5611; Pricing 1: 1=0.10000, 10=0.01600, 100=0.00640, 1000=0.00289, 2500=0.00251, 5000=0.00207 (USD); Case/Package: 0402; Number of Pins: 2; Case Code (Imperial): 0402; Case Code (Metric): 1005; Min Operating Temperature: -55°C; Max Operating Temperature: 155°C; Composition: Thick Film; Tolerance: 1%; Packaging: Tape and Reel; Termination: SMD/SMT; Military Standard: Not; Voltage Rating: 50V; Working Voltage: 50V; Number of Terminations: 2; Length: 1mm; Height: 0.32mm; Width: 0.5mm; Depth: 0.5mm; Lead Pitch: 0.2mm; REACH SVHC: No SVHC; Lead Free: Lead Free; ComponentLink1URL: https://datasheet.ciiva.com/7660/38568-7660787.pdf?src-supplier=Element14; ComponentLink1Description: https://datasheet.ciiva.com/7660/38568-7660787.pdf?src-supplier=Element14; ComponentLink2URL: https://datasheet.ciiva.com/7849/1784430-7849813.pdf?src-supplier=Element14; ComponentLink2Description: https://datasheet.ciiva.com/7849/1784430-7849813.pdf?src-supplier=Element14; ComponentLink3URL: https://datasheet.ciiva.com/7849/1686128-7849814.pdf?src-supplier=Element14; ComponentLink3Description: https://datasheet.ciiva.com/7849/1686128-7849814.pdf?src-supplier=Element14; ComponentLink4URL: https://datasheet.ciiva.com/7849/1784430-7849815.pdf?src-supplier=Element14; ComponentLink4Description: https://datasheet.ciiva.com/7849/1784430-7849815.pdf?src-supplier=Element14; ComponentLink5URL: https://datasheet.ciiva.com/22747/1018594-22747512.pdf?src-supplier=Element14; ComponentLink5Description: https://datasheet.ciiva.com/22747/1018594-22747512.pdf?src-supplier=Element14; ComponentLink6URL: https://datasheet.ciiva.com/12667/pyu-rc0402-51-rohs-l-6-r-12667067.pdf?src-supplier=Mouser; ComponentLink6Description: https://datasheet.ciiva.com/12667/pyu-rc0402-51-rohs-l-6-r-12667067.pdf?src-supplier=Mouser; ComponentLink7URL: https://datasheet.ciiva.com/7983/1018594-7983486.pdf?src-supplier=Element14; ComponentLink7Description: https://datasheet.ciiva.com/7983/1018594-7983486.pdf?src-supplier=Element14
footprint R0402
footprint RESC1005X37X25NL05T10 (Chip Resistor, 2-Leads, Body 1.00x0.50mm, IPC Medium Density)
footprint RESC1005X37X25NL05T10 (Chip Resistor, 2-Leads, Body 1.00x0.50mm, IPC Medium Density)
pins: 1, 2

## RES_11
designator R?, comment DNP (36K)  Supplier Part Number 1: YAG4210CT-ND
13k Ohm 5% 0402 Resistor; Supplier 1: Digi-Key
footprint RES400
footprint 0805
footprint 1206
footprint 0603
footprint R0402
footprint 0402_RES
pins: 1, 2
2 alternate drawings of the same symbol

## RES_12
designator R?, comment 1K
YAGEO         RC0805FR-101KL             RES, THICK FILM, 1K, 1%, 0.125W, 0805; Resistance: 1kR; Temperature Coefficient: 100ppm/°C; Power Rating: 125mW; Voltage Rating: 150V; Supplier 1: Mouser; Supplier Part Number 1: 603-RC0805FR-101KL; Manufacturer: Yageo; Manufacturer Part Number: RC0805FR-101KL; RoHS: Yes; Category: Chip SMD Resistors; Stock 1: 102355; Pricing 1: 1=0.13000, 10=0.03100, 100=0.01100, 1000=0.00800, 2500=0.00500, 10000=0.00500 (USD); Case/Package: 0805; Contact Plating: Tin,Matte,Lead; Case Code (Imperial): 0805; Case Code (Metric): 2012; Min Operating Temperature: -55°C; Max Operating Temperature: 155°C; Tolerance: 1%; Composition: Thick Film; Packaging: Tape and Reel; Termination: SMD/SMT; Military Standard: Not; Voltage Rating (DC): 150V; Length: 2mm; Height: 0.5mm; Width: 1.25mm; Depth: 1.25mm; Radiation Hardening: No; REACH SVHC: No SVHC; ComponentLink1URL: https://datasheet.ciiva.com/12561/rc0805-257173-12561685.pdf?src-supplier=Mouser; ComponentLink1Description: https://datasheet.ciiva.com/12561/rc0805-257173-12561685.pdf?src-supplier=Mouser; ComponentLink2URL: https://datasheet.ciiva.com/7983/444164-7983758.pdf?src-supplier=Element14; ComponentLink2Description: https://datasheet.ciiva.com/7983/444164-7983758.pdf?src-supplier=Element14
footprint RES400
footprint 0805
footprint 1206
footprint 0603
footprint R0402
footprint 0805_RES
pins: 1, 2
2 alternate drawings of the same symbol

## RES_13
designator R?, comment 4.7k
Manufacturer Part Number: RC0402JR-074K7L; Manufacturer: Yageo / Phycomp; Supplier 1: Digi-Key; Supplier Part Number 1: 311-4.7KJRCT-ND
footprint RESC1005X40X25LL05T10 (Chip Resistor, 2-Leads, Body 1.00x0.50mm, IPC High Density)
footprint RESC1005X40X25NL05T10 (Chip Resistor, 2-Leads, Body 1.00x0.50mm, IPC Medium Density)
footprint RESC1005X40X25ML05T10 (Chip Resistor, 2-Leads, Body 1.00x0.50mm, IPC Low Density)
footprint 0402_RES
pins: 1, 2
1 alternate drawing of the same symbol

## RES_14
designator R?, comment 470
Manufacturer: Yageo; Manufacturer Part Number: RC0402FR-13470RL; Supplier 1: Arrow; Supplier Part Number 1: RC0402FR-13470RL
footprint RESC1005X40X25ML05T10 (Chip Resistor, 2-Leads, Body 1.00x0.50mm, IPC Low Density)
footprint RESC1005X40X25LL05T10 (Chip Resistor, 2-Leads, Body 1.00x0.50mm, IPC High Density)
footprint RESC1005X40X25NL05T10 (Chip Resistor, 2-Leads, Body 1.00x0.50mm, IPC Medium Density)
footprint 0402_RES
pins: 1, 2
1 alternate drawing of the same symbol

## RES_15
designator R?, comment 51
Part Number: RR0816Q-510-D; Manufacturer: Susumu; Manufacturer Part Number: RC0402JR-0751RL; Resistance: 51R; Tolerance: 5%; Temperature Coefficient: 100ppm/°C; Voltage Rating (DC): 50V; Power Rating: 62.5mW; Max Power Dissipation: 63mW; RoHS: Yes; Category: Chip SMD Resistors; Stock 1: 244346; Pricing 1: 1=0.10000, 10=0.01300, 100=0.00530, 1000=0.00236, 2500=0.00205, 5000=0.00169 (USD); Case/Package: 0402; Number of Pins: 2; Case Code (Metric): 1005; Case Code (Imperial): 0402; Contact Plating: Tin,Matte; Min Operating Temperature: -55°C; Max Operating Temperature: 155°C; Packaging: Tape and Reel; Composition: Thick Film; Voltage Rating: 50V; Package Quantity: 1; Number of Terminations: 2; Termination: SMD/SMT; Military Standard: Not; Features: Moisture Resistant; Length: 0.039inch; Height: 0.016inch; Width: 0.02inch; Depth: 0.5mm; Radiation Hardening: No; Lead Free: Lead Free; REACH SVHC: No SVHC; ComponentLink1URL: https://datasheet.ciiva.com/16862/pyu-rc0402-51-rohs-l-6-16862478.pdf?src-supplier=Avnet+Europe; ComponentLink1Description: https://datasheet.ciiva.com/16862/pyu-rc0402-51-rohs-l-6-16862478.pdf?src-supplier=Avnet+Europe; ComponentLink2URL: https://datasheet.ciiva.com/2452/pyu-r-int-thick-7-2452671.pdf?src-supplier=Digi-Key; ComponentLink2Description: https://datasheet.ciiva.com/2452/pyu-r-int-thick-7-2452671.pdf?src-supplier=Digi-Key; ComponentLink3URL: https://datasheet.ciiva.com/2452/pyu-r-int-thick-7-2452672.pdf?src-supplier=Digi-Key; ComponentLink3Description: https://datasheet.ciiva.com/2452/pyu-r-int-thick-7-2452672.pdf?src-supplier=Digi-Key; ComponentLink4URL: https://datasheet.ciiva.com/2452/pyu-r-int-thick-7-2452673.pdf?src-supplier=Digi-Key; ComponentLink4Description: https://datasheet.ciiva.com/2452/pyu-r-int-thick-7-2452673.pdf?src-supplier=Digi-Key; ComponentLink5URL: https://datasheet.ciiva.com/7983/1018594-7983590.pdf?src-supplier=Element14; ComponentLink5Description: https://datasheet.ciiva.com/7983/1018594-7983590.pdf?src-supplier=Element14; ComponentLink6URL: https://datasheet.ciiva.com/12656/pyu-rc0402-51-rohs-l-6-r-12656778.pdf?src-supplier=Mouser; ComponentLink6Description: https://datasheet.ciiva.com/12656/pyu-rc0402-51-rohs-l-6-r-12656778.pdf?src-supplier=Mouser; ComponentLink7URL: https://datasheet.ciiva.com/17330/pyu-rc0402-51-rohs-l-6-r-17330811.pdf?src-supplier=Future+Electronics; ComponentLink7Description: https://datasheet.ciiva.com/17330/pyu-rc0402-51-rohs-l-6-r-17330811.pdf?src-supplier=Future+Electronics; Supplier 1: Digi-Key; Supplier Part Number 1: 311-51JRCT-ND
footprint RESC1608X50X30NL20T20 (Chip Resistor, 2-Leads, Body 1.60x0.80mm, IPC Medium Density)
footprint RESC1608X50X30ML20T20 (Chip Resistor, 2-Leads, Body 1.60x0.80mm, IPC Low Density)
footprint RESC1608X50X30LL20T20 (Chip Resistor, 2-Leads, Body 1.60x0.80mm, IPC High Density)
footprint 0402_RES
pins: 1, 2
1 alternate drawing of the same symbol

## RES_16
designator R?, comment 430
RES SMD 430 OHM 5% 1/16W 0402; Manufacturer Part Number: 311-430JRCT-ND; Manufacturer: Yageo; Manufacturer Part Number: RC0402JR-07430RL; Resistance: 430R; Temperature Coefficient: 100ppm/°C; Power Rating: 62.5mW; Voltage Rating: 50V; Max Power Dissipation: 63mW; Supplier 1: Digi-Key; RoHS: Yes; Category: Chip SMD Resistors; Stock 1: 521; Pricing 1: 1=0.10000, 10=0.01300, 100=0.00530, 1000=0.00236, 2500=0.00205, 5000=0.00169 (USD); Case/Package: 0402; Contact Plating: Tin,Matte; Case Code (Imperial): 0402; Case Code (Metric): 1005; Min Operating Temperature: -55°C; Max Operating Temperature: 155°C; Tolerance: 5%; Composition: Thick Film; Voltage Rating (DC): 50V; Packaging: Tape and Reel; Package Quantity: 1; Working Voltage: 50V; Termination: SMD/SMT; Number of Terminations: 2; Military Standard: Not; Features: Moisture Resistant; Length: 0.039inch; Height: 0.016inch; Width: 0.02inch; Depth: 0.5mm; Lead Free: Lead Free; ComponentLink1URL: https://datasheet.ciiva.com/2452/pyu-r-int-thick-7-2452725.pdf?src-supplier=Digi-Key; ComponentLink1Description: https://datasheet.ciiva.com/2452/pyu-r-int-thick-7-2452725.pdf?src-supplier=Digi-Key; ComponentLink2URL: https://datasheet.ciiva.com/16743/pyu-rc0402-51-rohs-l-6-r-16743893.pdf?src-supplier=Future+Electronics; ComponentLink2Description: https://datasheet.ciiva.com/16743/pyu-rc0402-51-rohs-l-6-r-16743893.pdf?src-supplier=Future+Electronics; ComponentLink3URL: https://datasheet.ciiva.com/16863/pyu-rc0402-51-rohs-l-6-16863285.pdf?src-supplier=Avnet+Europe; ComponentLink3Description: https://datasheet.ciiva.com/16863/pyu-rc0402-51-rohs-l-6-16863285.pdf?src-supplier=Avnet+Europe; ComponentLink4URL: https://datasheet.ciiva.com/2452/pyu-r-int-thick-7-2452726.pdf?src-supplier=Digi-Key; ComponentLink4Description: https://datasheet.ciiva.com/2452/pyu-r-int-thick-7-2452726.pdf?src-supplier=Digi-Key; ComponentLink5URL: https://datasheet.ciiva.com/2452/pyu-r-int-thick-7-2452727.pdf?src-supplier=Digi-Key; ComponentLink5Description: https://datasheet.ciiva.com/2452/pyu-r-int-thick-7-2452727.pdf?src-supplier=Digi-Key; ComponentLink6URL: https://datasheet.ciiva.com/28390/pyu-rc0402-51-rohs-l-6-28390744.pdf?src-supplier=Avnet+Europe; ComponentLink6Description: https://datasheet.ciiva.com/28390/pyu-rc0402-51-rohs-l-6-28390744.pdf?src-supplier=Avnet+Europe
footprint RES400
footprint 0805
footprint 1206
footprint 0603
footprint R0402
pins: 1, 2
2 alternate drawings of the same symbol

## RES_17
designator JP?, comment DNP
Not Normally Populated - use 0402 pads
footprint RES400
footprint 0805
footprint 1206
footprint 0603
footprint R0402
pins: 1, 2
2 alternate drawings of the same symbol

## RES_19
designator R?, comment 20R
RES SMD 20 OHM 5% 1/16W 0402; Manufacturer: Yageo; Manufacturer Part Number: RC0402JR-0720RL; Temperature Coefficient: 100ppm/°C; Power Rating: 62.5mW; Voltage Rating (DC): 50V; Max Power Dissipation: 63mW; Supplier 1: Digi-Key; Supplier Part Number 1: 311-20JRCT-ND; RoHS: Yes; Category: Chip SMD Resistors; Stock 1: 442700; Pricing 1: 1=0.10000, 10=0.01300, 100=0.00530, 1000=0.00236, 2500=0.00205, 5000=0.00169 (USD); Case/Package: 0402; Number of Pins: 2; Case Code (Metric): 1005; Case Code (Imperial): 0402; Min Operating Temperature: -55°C; Max Operating Temperature: 155°C; Resistance: 20R; Tolerance: 5%; Packaging: Tape and Reel; Composition: Thick Film; Package Quantity: 1; Number of Terminations: 2; Voltage Rating: 50V; Military Standard: Not; Features: Moisture Resistant; Termination: SMD/SMT; Length: 1mm; Height: 0.016inch; Width: 0.02inch; Depth: 0.5mm; Lead Free: Lead Free; ComponentLink1URL: https://datasheet.ciiva.com/2452/pyu-r-int-thick-7-2452640.pdf?src-supplier=Digi-Key; ComponentLink1Description: https://datasheet.ciiva.com/2452/pyu-r-int-thick-7-2452640.pdf?src-supplier=Digi-Key; ComponentLink2URL: https://datasheet.ciiva.com/2452/pyu-r-int-thick-7-2452638.pdf?src-supplier=Digi-Key; ComponentLink2Description: https://datasheet.ciiva.com/2452/pyu-r-int-thick-7-2452638.pdf?src-supplier=Digi-Key; ComponentLink3URL: https://datasheet.ciiva.com/16744/pyu-rc0402-51-rohs-l-6-r-16744510.pdf?src-supplier=Future+Electronics; ComponentLink3Description: https://datasheet.ciiva.com/16744/pyu-rc0402-51-rohs-l-6-r-16744510.pdf?src-supplier=Future+Electronics; ComponentLink4URL: https://datasheet.ciiva.com/2452/pyu-r-int-thick-7-2452639.pdf?src-supplier=Digi-Key; ComponentLink4Description: https://datasheet.ciiva.com/2452/pyu-r-int-thick-7-2452639.pdf?src-supplier=Digi-Key
footprint RES400
footprint 0805
footprint 1206
footprint 0603
footprint R0402
pins: 1, 2
2 alternate drawings of the same symbol

## RES_20k
designator R?, comment 20k
Manufacturer Part Number: CRCW040220K0FKED; Manufacturer: Vishay Dale; Supplier 1: Digi-Key
footprint RESC1005X40X25NL05T05 (Chip Resistor, 2-Leads, Body 1.00x0.50mm, IPC Medium Density)
footprint RESC1005X40X25LL05T05 (Chip Resistor, 2-Leads, Body 1.00x0.50mm, IPC High Density)
footprint CRCW040220K0FKED
footprint 0402_RES
pins: 1, 2
1 alternate drawing of the same symbol